# EAGLE library part AD8495 (library Pod4)
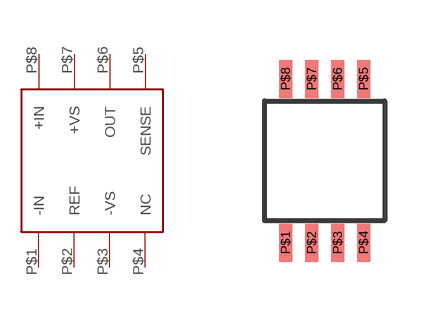
[diagram p3: symbol with the pads of AD8495; footprint AD8495]

Designator prefix -

## AD8495  [AD8495]
P$1  -IN
P$2  REF
P$3  -VS
P$4  NC
P$5  SENSE
P$6  OUT
P$7  +VS
P$8  +IN

## Footprint AD8495 (pad centres in mm)
smd 0.325 x 0.95: P$1 -0.975,-2.05; P$2 -0.325,-2.05; P$3 0.325,-2.05; P$4 0.975,-2.05; P$5 0.975,2.05; P$6 0.325,2.05; P$7 -0.325,2.05; P$8 -0.975,2.05